# EAGLE library part I-10925_74HC423AP (library Akizuki)
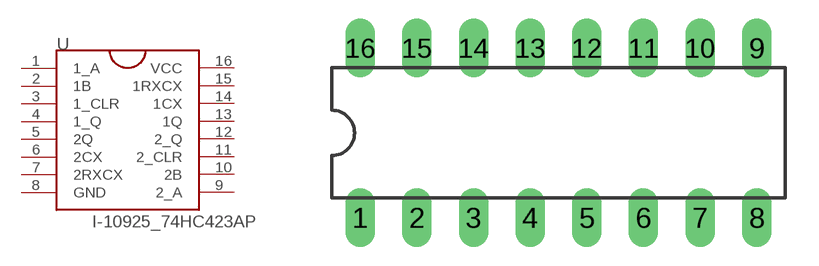
[diagram p43: symbol with the pads of DIL16; footprint DIL16]

Designator prefix U

## I-10925_74HC423AP  [DIL16]
1  1_A
2  1B
3  1_CLR
4  1_Q
5  2Q
6  2CX
7  2RXCX
8  GND
9  2_A
10  2B
11  2_CLR
12  2_Q
13  1Q
14  1CX
15  1RXCX
16  VCC

## Footprint DIL16 (pad centres in mm)
Dual In Line Package
drill 0.813 long: 1 -11.43,-3.81; 2 -8.89,-3.81; 3 -6.35,-3.81; 4 -3.81,-3.81; 5 -1.27,-3.81; 6 1.27,-3.81; 7 3.81,-3.81; 8 6.35,-3.81; 9 6.35,3.81; 10 3.81,3.81; 11 1.27,3.81; 12 -1.27,3.81; 13 -3.81,3.81; 14 -6.35,3.81; 15 -8.89,3.81; 16 -11.43,3.81